# Altium schematic symbol library TPS3824-30DBVR.SchLib: 1 symbol
Pins are listed as number, name and electrical type; pins without a type are passive.

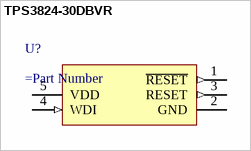
[diagram p0: symbol TPS3824-30DBVR]

## TPS3824-30DBVR
designator U?
=Description
pins: 1 ~{RESET} (out), 2 GND (power), 3 RESET (out), 4 WDI (in), 5 VDD (power)